# Altium schematic symbol library ft232hq.SchLib: 1 symbol
Pins are listed as number, name and electrical type; pins without a type are passive.

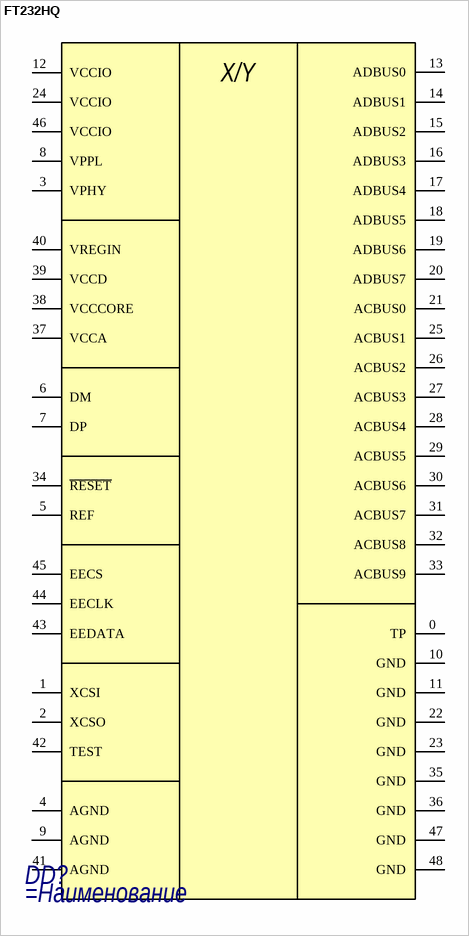
[diagram p0: symbol FT232HQ]

## FT232HQ
designator DD?
=Описание
pins: 0 TP, 1 XCSI, 2 XCSO, 3 VPHY, 4 AGND, 5 REF, 6 DM, 7 DP, 8 VPPL, 9 AGND, 10 GND, 11 GND, 12 VCCIO, 13 ADBUS0, 14 ADBUS1, 15 ADBUS2, 16 ADBUS3, 17 ADBUS4, 18 ADBUS5, 19 ADBUS6, 20 ADBUS7, 21 ACBUS0, 22 GND, 23 GND, 24 VCCIO, 25 ACBUS1, 26 ACBUS2, 27 ACBUS3, 28 ACBUS4, 29 ACBUS5, 30 ACBUS6, 31 ACBUS7, 32 ACBUS8, 33 ACBUS9, 34 ~{RESET}, 35 GND, 36 GND, 37 VCCA, 38 VCCCORE, 39 VCCD, 40 VREGIN, 41 AGND, 42 TEST, 43 EEDATA, 44 EECLK, 45 EECS, 46 VCCIO, 47 GND, 48 GND
text: X/Y